# Altium schematic symbol library analog_comparator.SchLib: 9 symbols
Pins are listed as number, name and electrical type; pins without a type are passive.

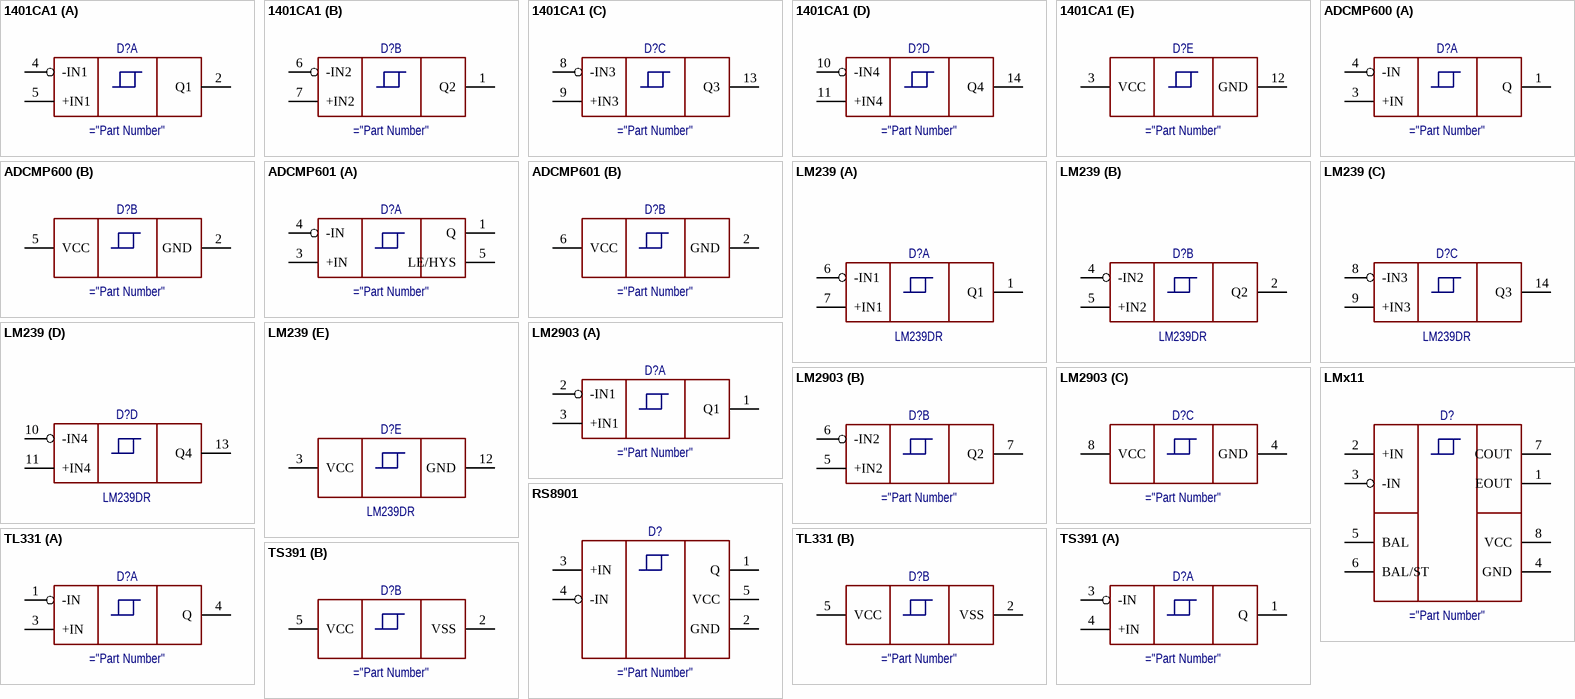
[diagram p0: symbols 1401СА1 to TS391]

## 1401СА1
designator D?
Comparator
part A pins: 2 Q1, 4 -IN1, 5 +IN1
part B pins: 1 Q2, 6 -IN2, 7 +IN2
part C pins: 8 -IN3, 9 +IN3, 13 Q3
part D pins: 10 -IN4, 11 +IN4, 14 Q4
part E pins: 3 VCC, 12 GND

## ADCMP600
designator D?
Comparator
part A pins: 1 Q, 3 +IN, 4 -IN
part B pins: 2 GND, 5 VCC

## ADCMP601
designator D?
Comparator
part A pins: 1 Q, 3 +IN, 4 -IN, 5 LE/HYS
part B pins: 2 GND, 6 VCC

## LM239
designator D?, comment LM239DR
Comparator
part A pins: 1 Q1, 6 -IN1, 7 +IN1
part B pins: 2 Q2, 4 -IN2, 5 +IN2
part C pins: 8 -IN3, 9 +IN3, 14 Q3
part D pins: 10 -IN4, 11 +IN4, 13 Q4
part E pins: 3 VCC, 12 GND

## LM2903
designator D?
Comparator 2ch
part A pins: 1 Q1, 2 -IN1, 3 +IN1
part B pins: 5 +IN2, 6 -IN2, 7 Q2
part C pins: 4 GND, 8 VCC

## LMx11
designator D?
Comparator
pins: 1 EOUT, 2 +IN, 3 -IN, 4 GND, 5 BAL, 6 BAL/ST, 7 COUT, 8 VCC

## RS8901
designator D?
Comparator
pins: 1 Q, 2 GND, 3 +IN, 4 -IN, 5 VCC

## TL331
designator D?
Comparator
part A pins: 1 -IN, 3 +IN, 4 Q
part B pins: 2 VSS, 5 VCC

## TS391
designator D?
Comparator
part A pins: 1 Q, 3 -IN, 4 +IN
part B pins: 2 VSS, 5 VCC